# Altium schematic symbol library ICL_passives_v1.SchLib: 295 symbols
Pins are listed as number, name and electrical type; pins without a type are passive.

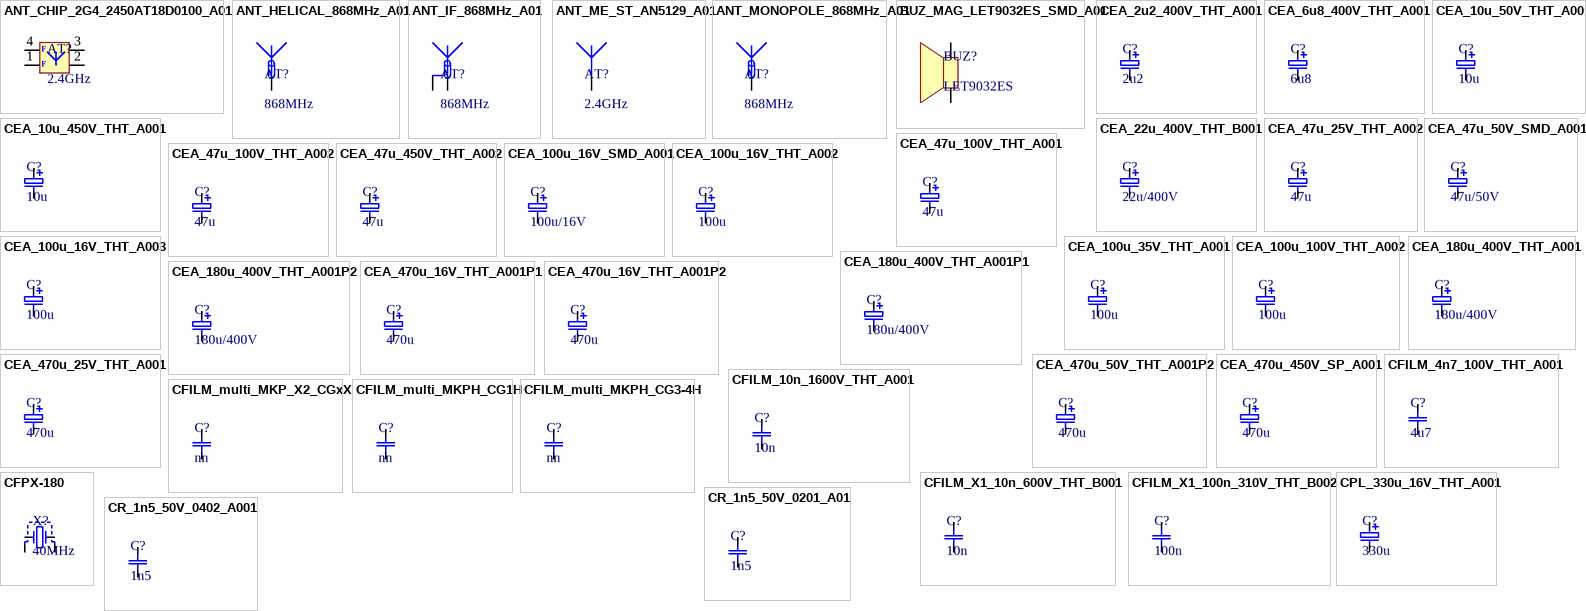
[diagram p0: symbols ANT_CHIP_2G4_2450AT18D0100_A01 to CR_1n5_50V_0402_A001]

## ANT_CHIP_2G4_2450AT18D0100_A01
designator AT?, comment 2.4GHz
50 Ohm 2.4GHz; ICLN: ANT_2G4_SMD_2450AT18D0100_A01
footprint 2450AT18D0100 (2,4GHz BLE/WiFi antena)
pins: 1, 2, 3, 4
text: F

## ANT_HELICAL_868MHz_A01
designator AT?, comment 868MHz
868 MHz: 10-j88; VSWR 22; PCB 0.8mm; ICLN: NA
footprint ANT_868MHz_HELICAL_A01 (868 MHz: 10-j88; VSWR 22; PCB 0.8mm)
pins: 2

## ANT_IF_868MHz_A01
designator AT?, comment 868MHz
50 Ohm 868 MHz: 30+j11; VSWR 1.8; PCB 0.8mm; ICLN: NA
footprint ANT_868MHz_IF_A01 (50 Ohm 868 MHz: 30+j11; VSWR 1.8; PCB 0.8mm)
pins: 1, 2

## ANT_ME_ST_AN5129_A01
designator AT?, comment 2.4GHz  (no BOM)
50 Ohm 2.4GHz ST; ICLN: NA
footprint ANT_ST_AN5129_BLE (2.4GHz ST antena)
pins: 1

## ANT_MONOPOLE_868MHz_A01
designator AT?, comment 868MHz
50 Ohm 868 MHz: 30+j11; VSWR 1.8; PCB 1.6mm; ICLN: NA
footprint ANT_868MHz_MONOPOLE_A01 (50 Ohm 868 MHz: 30+j11; VSWR 1.8; PCB 1.6mm)
pins: 2

## BUZ_MAG_LET9032ES_SMD_A01
designator BUZ?, comment LET9032ES
Buzzer SMD magnetic; ICLN: BUZ_MAG_LET9032ES_SMD_A01
footprint BUZZER_LET9032ES (LET9032ES-03L-2.7-16-R)
pins: 1, 2

## CEA_2u2_400V_THT_A001
designator C?, comment 2u2
2u2/400V Aluminum electrolic R=8mm H=11.5mm e=5mm; ICLN: CEA_2u2_400V_THT_A001
footprint CEA_R8_H11_5 (snap 3.5mm fi 8mm h 11.5mm)
pins: 1, 2

## CEA_6u8_400V_THT_A001
designator C?, comment 6u8
6u8/400V Aluminum electrolic R=10mm H=16mm e=5mm; ICLN: CEA_6u8_400V_THT_A001
footprint CEA_R10H16E5_1 (fi 10mm L 16mm e 5mm)
pins: 1, 2

## CEA_10u_50V_THT_A001
designator C?, comment 10u
cap. aluminium 10u/50V THT e=2.5mm H=11mm Fi=5; ICLN: CEA_10u_50V_THT_A001
footprint CEA_R6_3_H11_5 (tht 2.5mm fi 6,3mm h 11.5mm)
pins: 1, 2

## CEA_10u_450V_THT_A001
designator C?, comment 10u
180u/400V Aluminum electrolic R=12.5mm H=20mm e=5mm; ITSN: CEA_10u_450V_THT_A001
footprint CEA_R12,5_H20_A001 (e=5mm fi 12,5mm h 20mm)
pins: 1, 2

## CEA_22u_400V_THT_B001
designator C?, comment 22u/400V
22u/400V Aluminum electrolic; ICLN: CEA_22uF_400V_12_25_B001
footprint CEA_R12,5_H25_B001 (e=5mm and 7.5mm fi 12,5mm h 25mm)
pins: 1, 2

## CEA_47u_25V_THT_A002
designator C?, comment 47u
cap. aluminium low esr 47u/25V THT e=3,5mm H=11mm; ICLN: CEA_47u_25V_THT_A002
footprint CEA_R6_3_H11_5 (tht 2.5mm fi 6,3mm h 11.5mm)
pins: 1, 2

## CEA_47u_50V_SMD_A001
designator C?, comment 47u/50V
47u/50V Aluminum electrolic R=8mm H=6.5mm; ICLN: CEA_47u_50V_SMD_A001
footprint CEA_S_D8.0_H6.5_A001
pins: 1, 2

## CEA_47u_100V_THT_A001
designator C?, comment 47u
47u/100V Aluminum electrolic R=12.5mm H=20mm e=5mm; ICLN: CEA_47u_100V_THT_A003
footprint CEA_R12,5_H20_A001 (e=5mm fi 12,5mm h 20mm)
pins: 1, 2

## CEA_47u_100V_THT_A002
designator C?, comment 47u
47u/100V  R=10mm H=12mm e=5mm; ICLN: CEA_47u_100V_THT_A002
footprint CEA_R10_H12_A002 (e=5mm fi 10mm h 12mm)
pins: 1, 2

## CEA_47u_450V_THT_A002
designator C?, comment 47u
47u/450V fi19 h 30 e7.5, 10, 12; ITSN: CEA_47u_450V_THT_A002
footprint CEA_R19_H30_e75_10_v1 (e=7.5+10+12mm  fi 19mm h 30mm)
pins: 1, 2

## CEA_100u_16V_SMD_A001
designator C?, comment 100u/16V
100u/16V Aluminum electrolic R=6,3mm H=5.8mm; ICLN: CEA_100u_16V_SMD_A001
footprint CEA_S_D6.3_H5.8_A001
pins: 1, 2

## CEA_100u_16V_THT_A002
designator C?, comment 100u
100u/16V Aluminum electrolic R=6,3mm H=11,5mm e=2,5mm; ICLN: CEA_100u_16V_THT_A002
footprint CEA_R6_3_H11_5 (snap 3.5mm fi 8mm h 11.5mm)
pins: 1, 2

## CEA_100u_16V_THT_A003
designator C?, comment 100u
100u/16V Aluminum electrolic R=6,3mm H=11,5mm e=2,5mm; ICLN: CEA_100u_16V_THT_A003
footprint CEA_R6_3_H11_5 (snap 3.5mm fi 8mm h 11.5mm)
pins: 1, 2

## CEA_100u_35V_THT_A001
designator C?, comment 100u
cap. aluminium 100u/35V Low ESR THT e=2.5mm H=11mm Fi=5; ICLN: CEA_100u_35V_THT_A002
footprint CEA_R6_3_H11_5 (tht 2.5mm fi 6,3mm h 11.5mm)
pins: 1, 2

## CEA_100u_100V_THT_A002
designator C?, comment 100u
100u/100V Aluminum electrolic R=12.5mm H=25mm e=5mm; ICLN: CEA_100u_100V_THT_A002
footprint CEA_R12,5_H25_A001 (e=5mm fi 12,5mm h 25mm)
pins: 1, 2

## CEA_180u_400V_THT_A001
designator C?, comment 180u/400V
180u/400V Aluminum electrolic R=18mm H=45mm e=7.5mm; ITSN: CEA_180u_400V_THT_A001
footprint CEA_R18H45E7.5_1
pins: 1, 2

## CEA_180u_400V_THT_A001P1
designator C?, comment 180u/400V
180u/400V Aluminum electrolic R=18mm H=45mm e=7.5mm; poziomy prawy; ITSN: CEA_180u_400V_THT_A001P1
footprint CEA_R18H45E7.5_VR_1 (vertival right)
pins: 1, 2

## CEA_180u_400V_THT_A001P2
designator C?, comment 180u/400V
180u/400V Aluminum electrolic R=18mm H=45mm e=7.5mm; poziomy lewy; ITSN: CEA_180u_400V_THT_A001P2
footprint CEA_R18H45E7.5_VL_1 (vertival left)
pins: 1, 2

## CEA_470u_16V_THT_A001P1
designator C?, comment 470u
cap. aluminium 470u/16V THT e=3,5mm H=11mm; ITSN: CEA_470u_16V_THT_A001P1
footprint CEA_R8_H11_5_VL_1 (snap 3.5mm fi 8mm h 11.5mm)
pins: 1, 2

## CEA_470u_16V_THT_A001P2
designator C?, comment 470u
cap. aluminium 470u/16V THT e=3,5mm H=11mm; ITSN: CEA_470u_16V_THT_A001P2
footprint CEA_R8_H11_5_VR_1 (snap 3.5mm fi 8mm h 11.5mm)
pins: 1, 2

## CEA_470u_25V_THT_A001
designator C?, comment 470u
470u/25V Aluminum electrolic R=12.5mm H=20mm e=5mm; ICLN: CEA_470u_25V_THT_A001
footprint CEA_R12,5_H20_A001 (e=5mm fi 12,5mm h 20mm)
pins: 1, 2

## CEA_470u_50V_THT_A001P2
designator C?, comment 470u
cap. aluminium 470u/50V THT e=5mm R=12.5mm H=25mm; ITSN: CEA_470u_50V_THT_A001P1
footprint CEA_R12,5_H25_VL_A001P1 (e=5mm fi 12,5mm h 25mm)
pins: 1, 2

## CEA_470u_450V_SP_A001
designator C?, comment 470u
cap. aluminium 470u/450V THT e=10mm H=50mm; ITSN: CEA_470u_450V_SP_A001
footprint CEA_D35mm_H50mm_SP_A001
pins: 1, 2

## CFILM_4n7_100V_THT_A001
designator C?, comment 4u7
4u7/100V MKT Film capacitor; ITSN: CFILM_4n7_100V_THT_A001
footprint MPEM-4U7R20 (4u7/100V e = 20mm)
pins: 1, 2

## CFILM_10n_1600V_THT_A001
designator C?, comment 10n
10n/1600V MKT Kemet R76 Film capacitor; ITSN: CMKT_10n_1600V_THT_R76_A001
footprint R76-MPK_e15mm_l18mm_t5mm
pins: 1, 2

## CFILM_multi_MKP_X2_CGxX
designator C?, comment nn
CG-ELEC bulk DC link capacitor; ICLN: CMKP_xx_MKP_X2_CGxX_N001
footprint MKP-X2_CGxX_series (Universal footprint for CG-ELEC resonant cap)
pins: 1, 2

## CFILM_multi_MKPH_CG1H
designator C?, comment nn
CG-ELEC snubber capacitor; ICLN: CMKP_xx_MKPH_CG1H_N001
footprint MKPH_CG1H_series (Universal footprint for CG-ELEC snubber cap.)
pins: 1, 2

## CFILM_multi_MKPH_CG3-4H
designator C?, comment nn
CG-ELEC resonant capacitor; ICLN: CMKP_xx_MKPH_CG3-4H_N001
footprint MKPH_CGxH_series (Universal footprint for CG-ELEC resonant cap)
pins: 1, 2

## CFILM_X1_10n_600V_THT_B001
designator C?, comment 10n
10n/600V X1; ICLN: CFILM_X1_10n_600V_THT_B001
footprint C_X1_KEMET_B001
pins: 1, 2

## CFILM_X1_100n_310V_THT_B002
designator C?, comment 100n
100n/310VAC X1 18mm x 7mm; e=10 - 15 mm; ICLN: CFILM_100n_310V_THT_B002
footprint C_X1_18x8_B002
pins: 1, 2

## CFPX-180
designator X?, comment 40MHz
footprint CFPX-180 (kwarc)
pins: 1, 2, 3, 4

## CPL_330u_16V_THT_A001
designator C?, comment 330u
330u/16V polimer R=8mm H=8mm e=3.5mm; ICLN: CPL_330u_16V_THT_A001
footprint CPOL_R8_H8_THT_A001 (polimer l=8.0mm fi= 8mm e=3.5)
pins: 1, 2

## CR_1n5_50V_0201_A01
designator C?, comment 1n5
1n5F/ 50V X7R 0201; ICLN: CR_1n5_50V_X7R_0201_A01
footprint 0201C
pins: 1, 2

## CR_1n5_50V_0402_A001
designator C?, comment 1n5
1n5F/ 50V X7R 0402; ICLN: CR_1n5_50V_X7R_0402_A001
footprint 0402C
pins: 1, 2

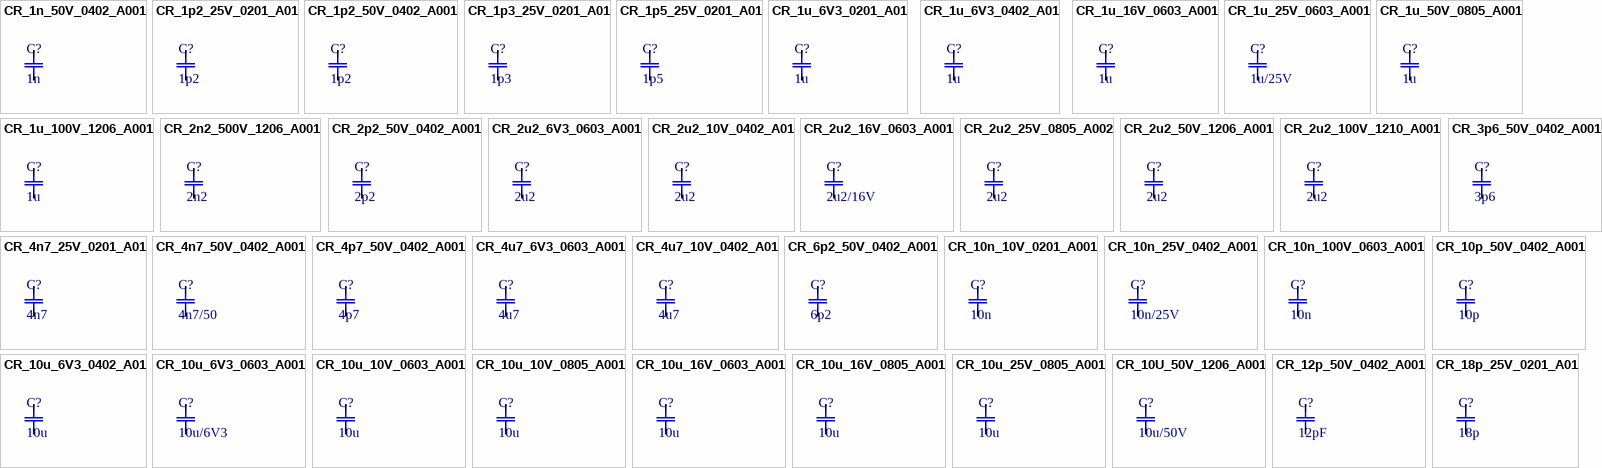
[diagram p1: symbols CR_1n_50V_0402_A001 to CR_18p_25V_0201_A01]

## CR_1n_50V_0402_A001
designator C?, comment 1n
1nF/ 50V X7R 0402; ICLN: CR_1n_50V_X7R_0402_A001
footprint 0402C
pins: 1, 2

## CR_1p2_25V_0201_A01
designator C?, comment 1p2
1p2F/ 25V C0G 0201; ICLN: CR_1p2_25V_C0G_0201_A01
footprint 0201C
pins: 1, 2

## CR_1p2_50V_0402_A001
designator C?, comment 1p2
1p2F/ 50V C0G 0402; ICLN: CR_1p2_50V_C0G_0402_A001
footprint 0402C
pins: 1, 2

## CR_1p3_25V_0201_A01
designator C?, comment 1p3
1p3F/ 25V C0G 0201; ICLN: CR_1p3_25V_C0G_0201_A01
footprint 0201C
pins: 1, 2

## CR_1p5_25V_0201_A01
designator C?, comment 1p5
1p5F/ 25V C0G 0201; ICLN: CR_1p5_25V_C0G_0201_A01
footprint 0201C
pins: 1, 2

## CR_1u_6V3_0201_A01
designator C?, comment 1u
1uF/6V3 X5R 0201; ICLN: CR_1u_6V3_X5R_0201_A01
footprint 0201C
pins: 1, 2

## CR_1u_6V3_0402_A01
designator C?, comment 1u
1uF/6V3 X7R 0402; ICLN: CR_1u_6V3_X7R_0402_A01
footprint 0402C
pins: 1, 2

## CR_1u_16V_0603_A001
designator C?, comment 1u
1uF/16V X7R 0603; ICLN: CR_1u_16V_X7R_0603_A001
footprint 0603C
pins: 1, 2

## CR_1u_25V_0603_A001
designator C?, comment 1u/25V
1uF/25V X7R 0603; ITSN: CR_1u_25V_X5R_0603_A001
footprint 0603C
pins: 1, 2

## CR_1u_50V_0805_A001
designator C?, comment 1u
1uF/50V X7R 0805; ICLN: CR_1u_50V_X7R_0805_A001
footprint 0805C
pins: 1, 2

## CR_1u_100V_1206_A001
designator C?, comment 1u
1uF/100V X7R 1206; ICLN: CR_1u_100V_X7R_1206_A001
footprint 1206C
pins: 1, 2

## CR_2n2_500V_1206_A001
designator C?, comment 2n2
2n2F/500V X7R 1206; ICLN: CR_2n2_500V_1206_A001
footprint 1206C
pins: 1, 2

## CR_2p2_50V_0402_A001
designator C?, comment 2p2
2p2/50V C0G 0402; ICLN: CR_2p2_50V_C0G_0402_A001
footprint 0402C
pins: 1, 2

## CR_2u2_6V3_0603_A001
designator C?, comment 2u2
2u2/6V3 X5R 0603; ICLN: CR_2u2_6V3_X5R_0603_A001
footprint 0603C
pins: 1, 2

## CR_2u2_10V_0402_A01
designator C?, comment 2u2
2u2/10V X5R 0402; ICLN: CR_2u2_10V_X5R_0402_A01
footprint 0402C
pins: 1, 2

## CR_2u2_16V_0603_A001
designator C?, comment 2u2/16V
2u2/16V X5R 0603; ITSN: CR_2u2_16V_X5R_0603_A001
footprint 0603C
pins: 1, 2

## CR_2u2_25V_0805_A002
designator C?, comment 2u2
2u2/25V X7R 0805; ICLN: CR_2u2_25V_X7R_0805_A001
footprint 0805C
pins: 1, 2

## CR_2u2_50V_1206_A001
designator C?, comment 2u2
2u2/50V X7R 1206; ICLN: CR_2u2_50V_X7R_1206_A001
footprint 1206C
pins: 1, 2

## CR_2u2_100V_1210_A001
designator C?, comment 2u2
2u2F/100V X7R 1210; ICLN: CR_2u2_100V_1210_A001
footprint 1210C
pins: 1, 2

## CR_3p6_50V_0402_A001
designator C?, comment 3p6
3p6/50V C0G 0402; ICLN: CR_3p6_50V_C0G_0402_A001
footprint 0402C
pins: 1, 2

## CR_4n7_25V_0201_A01
designator C?, comment 4n7
4n7 25V X7R 0201; ITSN: CR_4n7_25V_X7R_0201_A01
footprint 0201C
pins: 1, 2

## CR_4n7_50V_0402_A001
designator C?, comment 4n7/50
4n7 25V X7R 0402; ITSN: CR_4n7_50V_X7R_0402_A001
footprint 0402C
pins: 1, 2

## CR_4p7_50V_0402_A001
designator C?, comment 4p7
4p7F/ 50V X7R 0402; ICLN: CR_4p7_50V_X7R_0402_A001
footprint 0402C
pins: 1, 2

## CR_4u7_6V3_0603_A001
designator C?, comment 4u7
4u7/6V3 X5R 0603; ICLN: CR_4u7_6V3_X5R_0603_A001
footprint 0603C
pins: 1, 2

## CR_4u7_10V_0402_A01
designator C?, comment 4u7
4u7/10V X5R 0402; ICLN: CR_4u7_10V_X5R_0402_A01
footprint 0402C
pins: 1, 2

## CR_6p2_50V_0402_A001
designator C?, comment 6p2
6p2/50V C0G 0402; ICLN: CR_6p2_50V_C0G_0402_A001
footprint 0402C
pins: 1, 2

## CR_10n_10V_0201_A001
designator C?, comment 10n
10nF/10V X7R 0201; ICLN: CR_10n_10V_X7R_0201_A001
footprint 0201C
pins: 1, 2

## CR_10n_25V_0402_A001
designator C?, comment 10n/25V
10nF/25V X7R 0402; ICLN: CR_10n_25V_X7R_0402_A001
footprint 0402C
pins: 1, 2

## CR_10n_100V_0603_A001
designator C?, comment 10n
10nF/100V X7R 0603; ITSN: CR_10n_100V_X7R_0603_A001
footprint 0603C
pins: 1, 2

## CR_10p_50V_0402_A001
designator C?, comment 10p
10pF/ 50V C0G 0402; ICLN: CR_10p_50V_0402_C0G_A001
footprint 0402C
pins: 1, 2

## CR_10u_6V3_0402_A01
designator C?, comment 10u
10uF/6V3 X7R 0402; ICLN: CR_10u_6V3_X5R_0402_A01
footprint 0402C
pins: 1, 2

## CR_10u_6V3_0603_A001
designator C?, comment 10u/6V3
10uF/6V3 X7R 0603; ITSN: CR_10u_6V3_X7R_0603_A001
footprint 0603C
pins: 1, 2

## CR_10u_10V_0603_A001
designator C?, comment 10u
10uF/10V X5R 0603; ICLN: CR_10u_10V_0603_A001
footprint 0603C
pins: 1, 2

## CR_10u_10V_0805_A001
designator C?, comment 10u
10uF/10V X5R 0805; ICLN: CR_10u_10V_0805_A001
footprint 0805C
pins: 1, 2

## CR_10u_16V_0603_A001
designator C?, comment 10u
10uF/16V X5R 0603; ITSN: CR_10u_16V_X5R_0603_A001
footprint 0603C
pins: 1, 2

## CR_10u_16V_0805_A001
designator C?, comment 10u
10uF/16V X5R 0805; ICLN: CR_10u_16V_0805_A001
footprint 0805C
pins: 1, 2

## CR_10u_25V_0805_A001
designator C?, comment 10u
10uF/25V X5R 0805; ICLN: CR_10u_25V_X5R_0805_A001
footprint 0805C
pins: 1, 2

## CR_10U_50V_1206_A001
designator C?, comment 10u/50V
10uF/50V X5R 1206; ITSN: CR_10u_50V_X5R_1206_A001
footprint 1206C
pins: 1, 2

## CR_12p_50V_0402_A001
designator C?, comment 12pF
12pF/50V C0G 0402; ICLN: CR_12p_50V_C0G_0402_A001
footprint 0402C
pins: 1, 2

## CR_18p_25V_0201_A01
designator C?, comment 18p
18pF/ 25V C0G 0201; ICLN: CR_18p_25V_C0G_0201_A01
footprint 0201C
pins: 1, 2

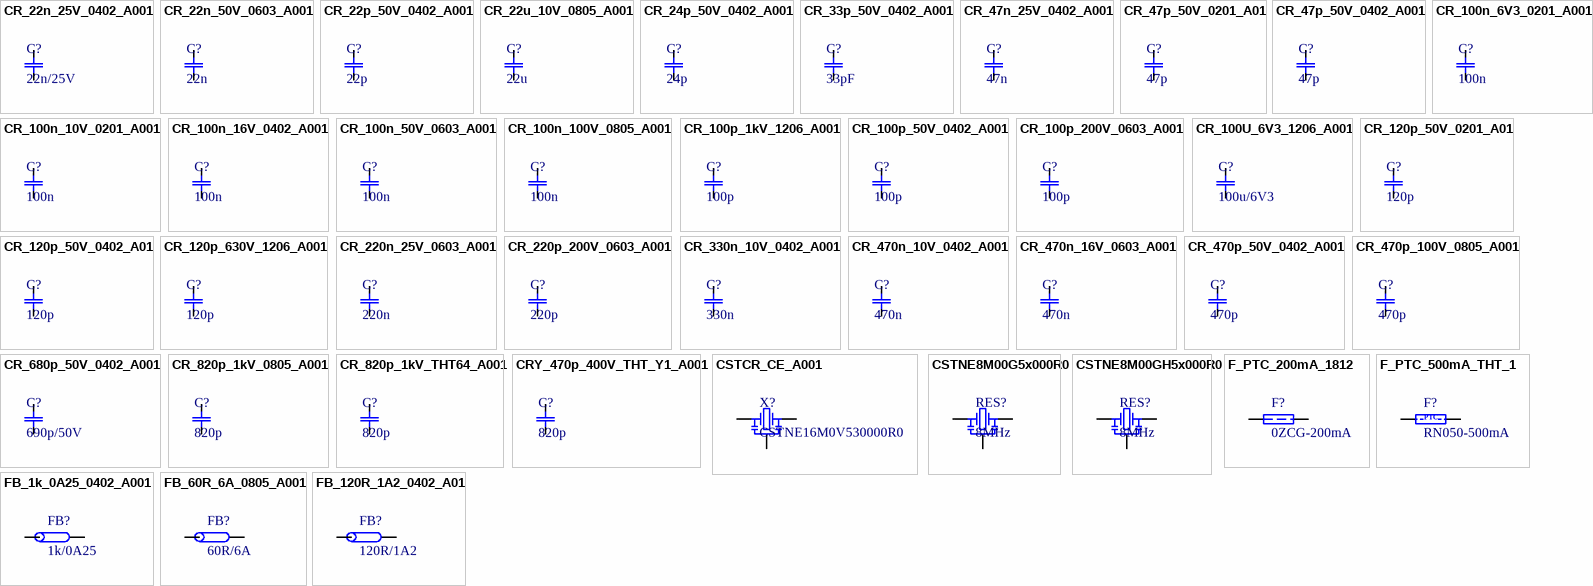
[diagram p2: symbols CR_22n_25V_0402_A001 to FB_120R_1A2_0402_A01]

## CR_22n_25V_0402_A001
designator C?, comment 22n/25V
22n/25V X7R 0402; ITSN: CR_22n_25V_X7R_0402_A001
footprint 0402C
pins: 1, 2

## CR_22n_50V_0603_A001
designator C?, comment 22n
22n/50V X7R 0603; ICLN: CR_22n_50V_X7R_0603_A001
footprint 0603C
pins: 1, 2

## CR_22p_50V_0402_A001
designator C?, comment 22p
22p/50V C0G 0402; ICLN: CR_22p_50V_C0G_0402_A001
footprint 0402C
pins: 1, 2

## CR_22u_10V_0805_A001
designator C?, comment 22u
22uF/10V X5R 0805; ITSN: CR_22u_10V_X5R_0805_A001
footprint 0805C
pins: 1, 2

## CR_24p_50V_0402_A001
designator C?, comment 24p
24p/50V C0G 0402; ICLN: CR_24p_50V_C0G_0402_A001
footprint 0402C
pins: 1, 2

## CR_33p_50V_0402_A001
designator C?, comment 33pF
33pF/50V C0G 0402; ITSN: CR_33p_50V_C0G_0402_A001
footprint 0402C
pins: 1, 2

## CR_47n_25V_0402_A001
designator C?, comment 47n
47nF/ 25V X7R 0402; ICLN: CR_47n_25V_0402_A001
footprint 0402C
pins: 1, 2

## CR_47p_50V_0201_A01
designator C?, comment 47p
47pF/ 50V C0G 0201; ICLN: CR_47p_50V_C0G_0201_A01
footprint 0201C
pins: 1, 2

## CR_47p_50V_0402_A001
designator C?, comment 47p
47pF/ 50V C0G 0402; ICLN: CR_47p_50V_C0G_0402_A001
footprint 0402C
pins: 1, 2

## CR_100n_6V3_0201_A001
designator C?, comment 100n
100nF/6V3 X5R 0201; ICLN: CR_100n_6V3_X5R_0201_A001
footprint 0201C
pins: 1, 2

## CR_100n_10V_0201_A001
designator C?, comment 100n
100nF/10V X5R 0201; ICLN: CR_100n_10V_X5R_0201_A001
footprint 0201C
pins: 1, 2

## CR_100n_16V_0402_A001
designator C?, comment 100n
100nF/16V X7R 0402; ICLN: CR_100n_16V_X7R_0402_A001
footprint 0402C
pins: 1, 2

## CR_100n_50V_0603_A001
designator C?, comment 100n
100nF/50V X7R 0603; ICLN: CR_100n_50V_X7R_0603_A001
footprint 0603C
pins: 1, 2

## CR_100n_100V_0805_A001
designator C?, comment 100n
100nF/100V X7R 0805; ICLN: CR_100n_100V_X7R_0805_A001
footprint 0805C
pins: 1, 2

## CR_100p_1kV_1206_A001
designator C?, comment 100p
100pF/1kV C0G 1206; ICLN: CR_100p_1kV_1206_C0G_A001
footprint 1206C
pins: 1, 2

## CR_100p_50V_0402_A001
designator C?, comment 100p
100pF/ 50V C0G 0402; ICLN: CR_100p_50V_C0G_0402_A001
footprint 0402C
pins: 1, 2

## CR_100p_200V_0603_A001
designator C?, comment 100p
100p/200V X7R 0603; ICLN: CR_100p_200V_X7R_0603_A001
footprint 0603C
pins: 1, 2

## CR_100U_6V3_1206_A001
designator C?, comment 100u/6V3
100uF/6V3 X5R 1206; ITSN: CR_100u_6V3_X5R_1206_A001
footprint 1206C
pins: 1, 2

## CR_120p_50V_0201_A01
designator C?, comment 120p
120pF/50V C0G 0201; ICLN: CR_120p_50V_C0G_0201_A01
footprint 0201C
pins: 1, 2

## CR_120p_50V_0402_A01
designator C?, comment 120p
120pF/50V C0G 0402; ICLN: CR_120p_50V_C0G_0402_A01
footprint 0402C
pins: 1, 2

## CR_120p_630V_1206_A001
designator C?, comment 120p
120pF/630V C0G 1206; ICLN: CR_120p_630V_1206_C0G_A001
footprint 1206C
pins: 1, 2

## CR_220n_25V_0603_A001
designator C?, comment 220n
220n/25V X7R 0603; ICLN: CR_220n_25V_X7R_0603_A001
footprint 0603C
pins: 1, 2

## CR_220p_200V_0603_A001
designator C?, comment 220p
220p/200V X7R 0603; ITSN: CR_220p_200V_X7R_0603_A001
footprint 0603C
pins: 1, 2

## CR_330n_10V_0402_A001
designator C?, comment 330n
330nF/10V X5R 0402; ICLN: CR_330n_10V_0402_A001
footprint 0402C
pins: 1, 2

## CR_470n_10V_0402_A001
designator C?, comment 470n
470n/10V X5R 0402; ICLN: CR_470n_10V_0402_X5R_A001
footprint 0402C
pins: 1, 2

## CR_470n_16V_0603_A001
designator C?, comment 470n
470n/16V X7R 0603; ICLN: CR_470n_16V_0603_X7R_A001
footprint 0603C
pins: 1, 2

## CR_470p_50V_0402_A001
designator C?, comment 470p
470p/50V C0G 0402; ICLN: CR_470p_50V_C0G_0402_A001
footprint 0402C
pins: 1, 2

## CR_470p_100V_0805_A001
designator C?, comment 470p
470p/100V C0G 0805; ICLN: CR_470p_100V_C0G_0805_A001
footprint 0805C
pins: 1, 2

## CR_680p_50V_0402_A001
designator C?, comment 690p/50V
680pF/ 50V C0G 0402; ITSN: CR_680p_50V_C0G_0402_A001
footprint 0402C
pins: 1, 2

## CR_820p_1kV_0805_A001
designator C?, comment 820p
820p/1kV X7R 0805; ICLN: CR_820p_1kV_X7R_0805_A001
footprint 0805C
pins: 1, 2

## CR_820p_1kV_THT64_A001
designator C?, comment 820p
820p / 1kV; ICLN: CR_820p_1kV_THT_64MM_A001
footprint CRY_THT_e10_75_D9_T5_A001 (cr e=7.5-10 D=7.5 T=4 THT)
pins: 1, 2

## CRY_470p_400V_THT_Y1_A001
designator C?, comment 820p
470p/400V Y1 e=7.5 - 10 mm H= 10; ICLN: CRY_470p_400V_Y1_THT_A001
footprint CRY_THT_e10_75_D9_T5_A001 (cr e=7.5-10 D=7.5 T=4 THT)
pins: 1, 2

## CSTCR_CE_A001
designator X?, comment CSTNE16M0V530000R0
CSTNE16M0V530000R0 16MHz; ITSN: XTAL_CSTCE_16MHz_SMD_A001
footprint CSTCE_NE_A001 (Murata ceramic resonator e=1,2mm)
pins: 1, 2, 3

## CSTNE8M00G5x000R0
designator RES?, comment 8MHz
ceramic resonator  8MHz 0,5%CSTNE8M00G55C000R0; ICLN: RES_8MHz_SMD_0,5%_A001
footprint CSTNE_NE_A001 (Murata ceramic resonator e=1,2mm)
pins: 1, 2, 3

## CSTNE8M00GH5x000R0
designator RES?, comment 8MHz
ceramic resonator  8MHz 0,07%CSTNE8M00GH5C000R0; ICLN: RES_8MHz_SMD_0,07%_A001
footprint CSTNE_NE_A001 (Murata ceramic resonator e=1,2mm)
pins: 1, 2, 3

## F_PTC_200mA_1812
designator F?, comment 0ZCG-200mA
Polimer PTC fuse 200mA/60V 1812; ICLN: F_POLI_200mA_SMD_1812_A001
footprint 1812F
pins: 1, 2

## F_PTC_500mA_THT_1
designator F?, comment RN050-500mA
Polimer PTC fuse 500mA/90V THT; ICLN: F_POLI_500mA_THT_d10e5_A001
footprint RN0xx_A001 (fi 10mm L 14mm e 5.1mm)
pins: 1, 2
text: PTC

## FB_1k_0A25_0402_A001
designator FB?, comment 1k/0A25
1k @ 100MHz 0A25 0402; ICLN: FB_1k_0A25_0402_A001
footprint 0402R
pins: 1, 2

## FB_60R_6A_0805_A001
designator FB?, comment 60R/6A
60R @ 100MHz 0805; ICLN: FB_60R_5A_0805_A001
footprint 0805R
pins: 1, 2

## FB_120R_1A2_0402_A01
designator FB?, comment 120R/1A2
120R @ 100MHz 1A2 0402; ICLN: FB_120R_1A2_0402_A01
footprint 0402R
pins: 1, 2

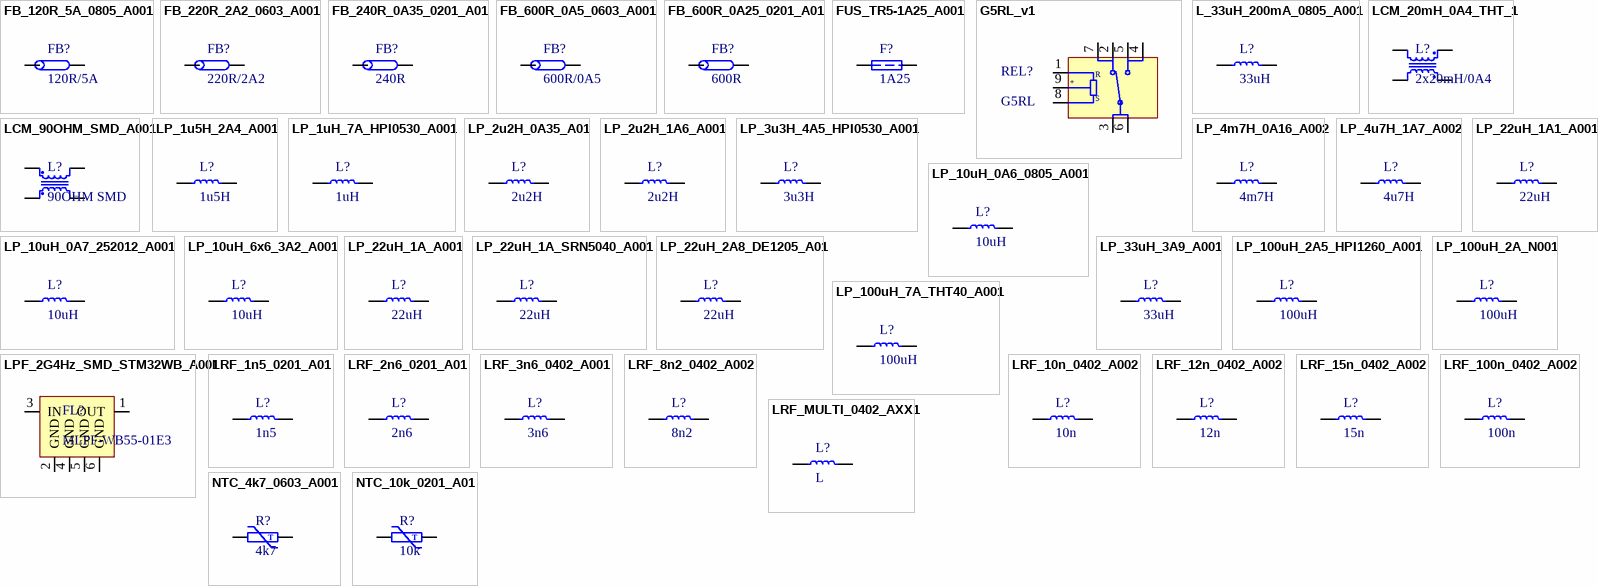
[diagram p3: symbols FB_120R_5A_0805_A001 to NTC_10k_0201_A01]

## FB_120R_5A_0805_A001
designator FB?, comment 120R/5A
120R @ 100MHz 0805; ICLN: FB_120R_5A_0805_A001
footprint 0805R
pins: 1, 2

## FB_220R_2A2_0603_A001
designator FB?, comment 220R/2A2
220R @ 100MHz 0603; ITSN: FB_220R_2A2_0603_A001
footprint 0603R
pins: 1, 2

## FB_240R_0A35_0201_A01
designator FB?, comment 240R
240R @ 100MHz 0A35 0201; ICLN: FB_240R_0A35_0201_A01
footprint 0201R
pins: 1, 2

## FB_600R_0A5_0603_A001
designator FB?, comment 600R/0A5
600R @ 100MHz 0603; ICLN: FB_600R_0A5_0603_A001
footprint 0603R
pins: 1, 2

## FB_600R_0A25_0201_A01
designator FB?, comment 600R
600R @ 100MHz 0A25 0201; ICLN: FB_600R_0A25_0201_A01
footprint 0201R
pins: 1, 2

## FUS_TR5-1A25_A001
designator F?, comment 1A25
TR5 1,25A fuse; ICLN: FUSE_1A25_TR5_THT_A001
footprint FUSE_MRT_THT_v1 (MRT round fuse THT soldering)
pins: 1, 2

## G5RL_v1
designator REL?, comment G5RL
bistable releay Omron G5RL; ITSN: REL_G5RL_MULTI_A001
footprint G5RL_universal_v1 (G5RL universal footprint)
pins: 1, 2, 3, 4, 5, 6, 7, 8, 9
text: R; +; S

## L_33uH_200mA_0805_A001
designator L?, comment 33uH
33uH / 200mA 0805; ICLN: L_33uH_200mA_0805_A001
footprint 0805R
pins: 1, 2

## LCM_20mH_0A4_THT_1
designator L?, comment 2x20mH/0A4
ICLN: LCM_20mH_0A4_THT_A001
footprint LCM_SSRH7H_B82721-A
pins: 1, 2, 3, 4

## LCM_90OHM_SMD_A001
designator L?, comment 90OHM SMD
ICLN: LCM_20mH_0A4_THT_A001
footprint DLM11S_A001 (murata CM smd choke)
pins: 1, 2, 3, 4

## LP_1u5H_2A4_A001
designator L?, comment 1u5H
1u5H/2A4 1008; ICLN: LP_1u5H_2A4_1008_A001
footprint 1008L
pins: 1, 2

## LP_1uH_7A_HPI0530_A001
designator L?, comment 1uH
1uH/7A HPI0530; ITSN: LP_1uH_7A_SMD_HPI0530_A001
footprint HPI0530
pins: 1, 2

## LP_2u2H_0A35_A01
designator L?, comment 2u2H
2u2H/0A35 MLZ1005; ICLN: LP_2u2H_0A35_0402_A001
footprint MLZ1005 (inductor murata)
pins: 1, 2

## LP_2u2H_1A6_A001
designator L?, comment 2u2H
2u2H/1A6 WLPN303015; ICLN: LP_2u2H_1A6_WLPN303015_A001
footprint WLPN303015
pins: 1, 2

## LP_3u3H_4A5_HPI0530_A001
designator L?, comment 3u3H
3u3H/4A5 HPI0530; ICLN: LP_3u3H_4A5_HPI0530_A001
footprint HPI0530
pins: 1, 2

## LP_4m7H_0A16_A002
designator L?, comment 4m7H
4,7mH/0,16A  COIL0608-4.7; ICLN: LP_4m7H_0A16_THT_A002
footprint L_COIL0608-47_v1 (inductor)
pins: 1, 2

## LP_4u7H_1A7_A002
designator L?, comment 4u7H
4,7uH/1A7 DJNR 4018; ICLN: LP_4u7H_1A_DJNR4018_A002
footprint DJNR4018
pins: 1, 2

## LP_10uH_0A6_0805_A001
designator L?, comment 10uH
10uH/0A6 74479777310A; ICLN: LP_10uH_0A6_0805_A001
footprint 0805R
pins: 1, 2

## LP_10uH_0A7_252012_A001
designator L?, comment 10uH
10uH/0A7 SWPA252012; ICLN: LP_10uH_0A7_SMD_252012_A001
footprint SWPA252012S
pins: 1, 2

## LP_10uH_6x6_3A2_A001
designator L?, comment 10uH
10uH/3A1 6x6; ICLN: LP_10uH_6x6_3A2_N001
footprint VLS6045EX
pins: 1, 2

## LP_22uH_1A1_A001
designator L?, comment 22uH
22uH/1A1 DJNR 6045; ITSN: LP_22uH_1A1_DJNR6045_A001
footprint DJNR6045
pins: 1, 2

## LP_22uH_1A_A001
designator L?, comment 22uH
22uH/1A DJNR 4018; ITSN: LP_22uH_1A_DJNR4018_A001
footprint DJNR4018
pins: 1, 2

## LP_22uH_1A_SRN5040_A001
designator L?, comment 22uH
22uH/1A SRN5040; DJNR5020; DJNR5040; ITSN: LP_22uH_1A_SRN5040_A001
footprint SRN5040 (BOURNS  SRN5040)
pins: 1, 2

## LP_22uH_2A8_DE1205_A01
designator L?, comment 22uH
22uH/2A8 DE1205; ICLN: LP_22u_2A8_DE1205_SMD_A001
footprint DE1205
pins: 1, 2

## LP_33uH_3A9_A001
designator L?, comment 33uH
33uH/3A9 DE1207; ITSN: LP_33uH_3A9_DE1207_A001
footprint DE1207
pins: 1, 2

## LP_100uH_2A5_HPI1260_A001
designator L?, comment 100uH
100uH/2A/HIP1260; ICLN: LP_100uH_2A5_HPI1260_A001
footprint HPI1260
pins: 1, 2

## LP_100uH_2A_N001
designator L?, comment 100uH
100uH/2A; ICLN: LP_100uH_2A_N001
footprint L_SMD_13_13_MULTI
pins: 1, 2

## LP_100uH_7A_THT40_A001
designator L?, comment 100uH
100uH/7A; ITSN: LP_100uH_7A_THT40_A001
footprint L_T40_A001 (inductor)
pins: 1, 2

## LPF_2G4Hz_SMD_STM32WB_A001
designator FL?, comment MLPF-WB55-01E3
MLPF-WB55-01E3  LPF 2.4GHz for STM32WB; ICLN: LPF_MLPF-WB55-01E3_SMD_A001
footprint MLPF-WB55-01E3 (st lpg FILTER)
pins: 1 OUT, 2 GND, 3 IN, 4 GND, 5 GND, 6 GND

## LRF_1n5_0201_A01
designator L?, comment 1n5
1n5H 5% 300mA 0201; ICLN: LRF_1n5_0201_A01
footprint 0201L
pins: 1, 2

## LRF_2n6_0201_A01
designator L?, comment 2n6
2n6H 5% 300mA 0201; ICLN: LRF_2n6_0201_A01
footprint 0201L
pins: 1, 2

## LRF_3n6_0402_A001
designator L?, comment 3n6
3n6H 5% 100mA 0402; ICLN: LRF_3n6H_0402_A001
footprint 0402L
pins: 1, 2

## LRF_8n2_0402_A002
designator L?, comment 8n2
8n2H 5% 500mA 0402; ICLN: LRF_8n2_0A5_5%_0402_A001
footprint 0402L
pins: 1, 2

## LRF_10n_0402_A002
designator L?, comment 10n
10nH 5% 500mA 0402; ICLN: LRF_10n_0A5_5%_0402_A001
footprint 0402L
pins: 1, 2

## LRF_12n_0402_A002
designator L?, comment 12n
12nH 5% 450mA 0402; ICLN: LRF_12n_0A45_5%_0402_A001
footprint 0402L
pins: 1, 2

## LRF_15n_0402_A002
designator L?, comment 15n
15nH 5% 450mA 0402; ICLN: LRF_15n_0A45_5%_0402_A001
footprint 0402L
pins: 1, 2

## LRF_100n_0402_A002
designator L?, comment 100n
100nH 5% 200mA 0402; ICLN: LRF_100n_0A2_5%_0402_A001
footprint 0402L
pins: 1, 2

## LRF_MULTI_0402_AXX1
designator L?, comment L
footprint 0402L
pins: 1, 2

## NTC_4k7_0603_A001
designator R?, comment 4k7
NTC 4k7  0603; ITSN: NTC_4k7_0603_A001
footprint 0603R
pins: 1, 2
text: T

## NTC_10k_0201_A01
designator R?, comment 10k
NTC 10k  0201; ICLN: NTC_10k_0201_1%_A01
footprint 0201R
pins: 1, 2
text: T

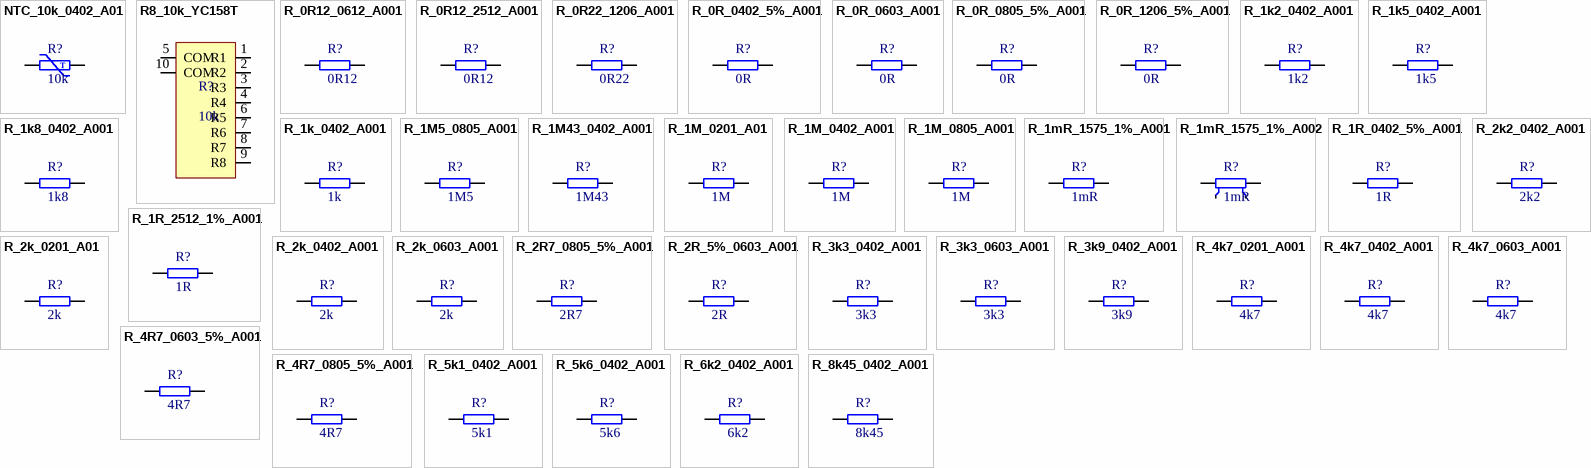
[diagram p4: symbols NTC_10k_0402_A01 to R_8k45_0402_A001]

## NTC_10k_0402_A01
designator R?, comment 10k
NTC 10k  0402; ICLN: NTC_10k_0402_A01
footprint 0402R
pins: 1, 2
text: T

## R8_10k_YC158T
designator R?, comment 10k
Resistor Ladder 10k ohm x 8pcs
footprint YC158 (8 resistors one pack)
pins: 1 R1, 2 R2, 3 R3, 4 R4, 5 COM, 6 R5, 7 R6, 8 R7, 9 R8, 10 COM

## R_0R12_0612_A001
designator R?, comment 0R12
0R12 1% 0612 1W; ICLN: R_0R12_0612_1W_A001
footprint 0612R
pins: 1, 2

## R_0R12_2512_A001
designator R?, comment 0R12
0R12 1% 2512 1W; ICLN: R_0R12_2512_1W_A001
footprint 2512R
pins: 1, 2

## R_0R22_1206_A001
designator R?, comment 0R22
0R22 1% 1206; ITSN: R_0R22_1206_A001
footprint 1206R
pins: 1, 2

## R_0R_0402_5%_A001
designator R?, comment 0R
0R 5% 0402; ICLN: R_0R_5%_0402_A001
footprint 0402R
pins: 1, 2

## R_0R_0603_A001
designator R?, comment 0R
0R 5% 0603; ITSN: R_0R_5%_0603_A001
footprint 0603R
pins: 1, 2

## R_0R_0805_5%_A001
designator R?, comment 0R
0R 5% 0805; ITSN: R_0R_5%_0805_A001
footprint 0805R
pins: 1, 2

## R_0R_1206_5%_A001
designator R?, comment 0R
0R 5% 1206; ITSN: R_0R_5%_1206_A001
footprint 1206R
pins: 1, 2

## R_1k2_0402_A001
designator R?, comment 1k2
1k2 1% 0402; ICLN: R_1k2_1%_0402_A001
footprint 0402R
pins: 1, 2

## R_1k5_0402_A001
designator R?, comment 1k5
1k5 1% 0402; ICLN: R_1k5_1%_0402_A001
footprint 0402R
pins: 1, 2

## R_1k8_0402_A001
designator R?, comment 1k8
1k8 1% 0402; ICLN: R_1k8_1%_0402_A001
footprint 0402R
pins: 1, 2

## R_1k_0402_A001
designator R?, comment 1k
1k 1% 0402; ICLN: R_1k_1%_0402_A001
footprint 0402R
pins: 1, 2

## R_1M5_0805_A001
designator R?, comment 1M5
1M5 1% 0805; ICLN: R_1M5_1%_0805_A001
footprint 0805R
pins: 1, 2

## R_1M43_0402_A001
designator R?, comment 1M43
1M43 1% 0402; ICLN: R_1M43_1%_0402_A001
footprint 0402R
pins: 1, 2

## R_1M_0201_A01
designator R?, comment 1M
1M 1% 0201; ICLN: R_1M_1%_0402_A001
footprint 0201R
pins: 1, 2

## R_1M_0402_A001
designator R?, comment 1M
1M 1% 0402; ICLN: R_1M_1%_0402_A001
footprint 0402R
pins: 1, 2

## R_1M_0805_A001
designator R?, comment 1M
1M 1% 0805; ICLN: R_1M_1%_0805_A001
footprint 0805R
pins: 1, 2

## R_1mR_1575_1%_A001
designator R?, comment 1mR
1mR `% 7W 1575; ICLN: R_0R001_1575_A001
footprint CRS1575
pins: 1, 2

## R_1mR_1575_1%_A002
designator R?, comment 1mR
1mR 7W 1% 1575; ICLN: R_0R001_1575_A001
footprint 1575R_SH_1
pins: 1, 2, 3, 4

## R_1R_0402_5%_A001
designator R?, comment 1R
1R 5% 0402; ICLN: R_1R_0402_5%_A001
footprint 0402R
pins: 1, 2

## R_1R_2512_1%_A001
designator R?, comment 1R
1R `% 1W 1575; ICLN: R_1R_1%_2512_A001
footprint 2512R
pins: 1, 2

## R_2k2_0402_A001
designator R?, comment 2k2
2k2 1% 0402; ITSN: R_2k2_1%_0402_A001
footprint 0402R
pins: 1, 2

## R_2k_0201_A01
designator R?, comment 2k
2k 1% 0201; ICLN: R_2k_1%_0201_A01
footprint 0201R
pins: 1, 2

## R_2k_0402_A001
designator R?, comment 2k
2k 1% 0402; ICLN: R_2k_1%_0402_A01
footprint 0402R
pins: 1, 2

## R_2k_0603_A001
designator R?, comment 2k
2k 1% 0603; ITSN: R_2k_1%_0603_A001
footprint 0603R
pins: 1, 2

## R_2R7_0805_5%_A001
designator R?, comment 2R7
2R7 5% 0805; ITSN: R_2R7_5%_0805_A001
footprint 0805R
pins: 1, 2

## R_2R_5%_0603_A001
designator R?, comment 2R
2R 5% 0603; ICLN: R_2R_5%_0603_A001
footprint 0603R
pins: 1, 2

## R_3k3_0402_A001
designator R?, comment 3k3
3k3 1% 0402; ICLN: R_3k3_1%_0402_A001
footprint 0402R
pins: 1, 2

## R_3k3_0603_A001
designator R?, comment 3k3
3k3 1% 0603; ICLN: R_3k3_1%_0603_A001
footprint 0603R
pins: 1, 2

## R_3k9_0402_A001
designator R?, comment 3k9
3k9 1% 0402; ICLN: R_3k9_1%_0402_A001
footprint 0402R
pins: 1, 2

## R_4k7_0201_A001
designator R?, comment 4k7
4k7 1% 0201; ICLN: R_4k7_1%_0201_A001
footprint 0201R
pins: 1, 2

## R_4k7_0402_A001
designator R?, comment 4k7
4k7 1% 0402; ICLN: R_4k7_1%_0402_A001
footprint 0402R
pins: 1, 2

## R_4k7_0603_A001
designator R?, comment 4k7
4k7 1% 0603; ICLN: R_4k7_1%_0603_A001
footprint 0603R
pins: 1, 2

## R_4R7_0603_5%_A001
designator R?, comment 4R7
4R7 5% 0603; ICLN: R_4R7_5%_0603_A001
footprint 0603R
pins: 1, 2

## R_4R7_0805_5%_A001
designator R?, comment 4R7
4R7 5% 0805; ICLN: R_4R7_5%_0805_A001
footprint 0805R
pins: 1, 2

## R_5k1_0402_A001
designator R?, comment 5k1
5k1 1% 0402; ICLN: R_5k1_1%_0402_A001
footprint 0402R
pins: 1, 2

## R_5k6_0402_A001
designator R?, comment 5k6
5k6 1% 0402; ITSN: R_5k6_1%_0402_A001
footprint 0402R
pins: 1, 2

## R_6k2_0402_A001
designator R?, comment 6k2
6k2 1% 0402; ICLN: R_6k2_1%_0402_A001
footprint 0402R
pins: 1, 2

## R_8k45_0402_A001
designator R?, comment 8k45
8k45 1% 0402; ICLN: R_8k45_1%_0402_A001
footprint 0402R
pins: 1, 2

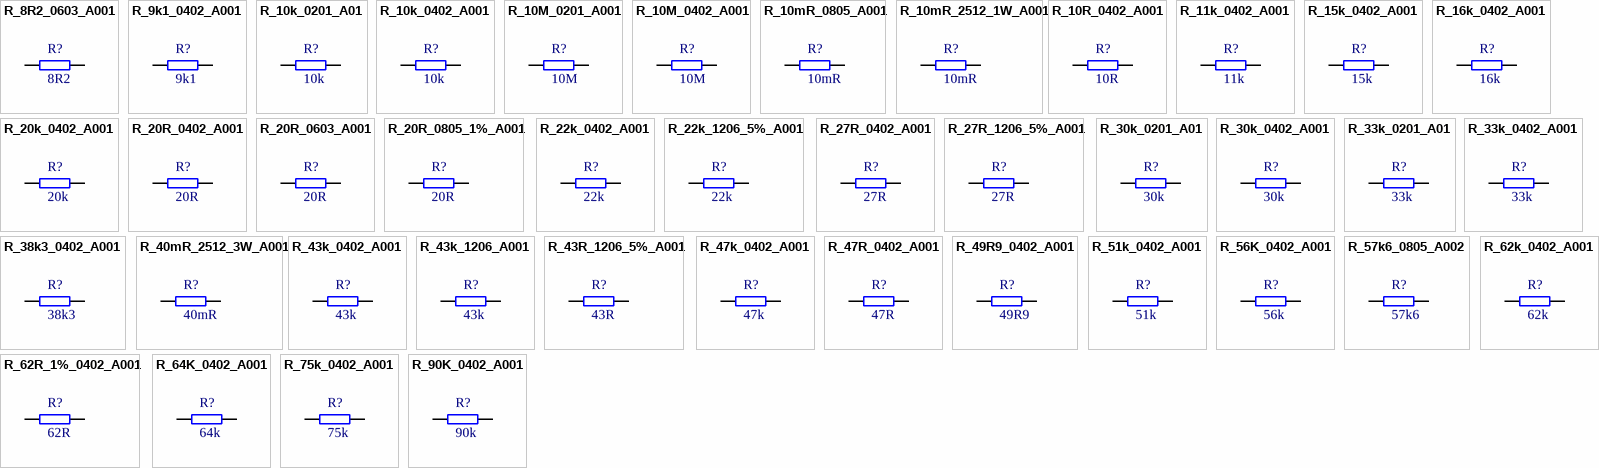
[diagram p5: symbols R_8R2_0603_A001 to R_90K_0402_A001]

## R_8R2_0603_A001
designator R?, comment 8R2
8R2 1% 0603; ICLN: R_8R2_0603_A001
footprint 0603R
pins: 1, 2

## R_9k1_0402_A001
designator R?, comment 9k1
9k1 1% 0402; ICLN: R_9k1_1%_0402_A001
footprint 0402R
pins: 1, 2

## R_10k_0201_A01
designator R?, comment 10k
10k 1% 0201; ICLN: R_10k_1%_0201_A001
footprint 0201R
pins: 1, 2

## R_10k_0402_A001
designator R?, comment 10k
10k 1% 0402; ICLN: R_10k_1%_0402_A001
footprint 0402R
pins: 1, 2

## R_10M_0201_A001
designator R?, comment 10M
10M 1% 0201; ICLN: R_10M_1%_0201_A01
footprint 0201R
pins: 1, 2

## R_10M_0402_A001
designator R?, comment 10M
10M 1% 0402; ICLN: R_10M_1%_0402_A001
footprint 0402R
pins: 1, 2

## R_10mR_0805_A001
designator R?, comment 10mR
10mR 1% 0805; ICLN: R_10mR_1%_0805_A001
footprint 0805R
pins: 1, 2

## R_10mR_2512_1W_A001
designator R?, comment 10mR
10mR 1% 2512 1W; ICLN: R_10mR_1%_2512_1W_A001
footprint 2512R
pins: 1, 2

## R_10R_0402_A001
designator R?, comment 10R
10R 1% 0402; ICLN: R_10R_1%_0402_A001
footprint 0402R
pins: 1, 2

## R_11k_0402_A001
designator R?, comment 11k
11k 1% 0402; ITSN: R_11k_1%_0402_A001
footprint 0402R
pins: 1, 2

## R_15k_0402_A001
designator R?, comment 15k
15k 1% 0402; ICLN: R_15k_1%_0402_A001
footprint 0402R
pins: 1, 2

## R_16k_0402_A001
designator R?, comment 16k
16k 1% 0402; ICLN: R_15k_1%_0402_A001
footprint 0402R
pins: 1, 2

## R_20k_0402_A001
designator R?, comment 20k
20k 1% 0402; ITSN: R_20k_1%_0402_A001
footprint 0402R
pins: 1, 2

## R_20R_0402_A001
designator R?, comment 20R
20R 1% 0402; ICLN: R_20R_1%_0402_A001
footprint 0402R
pins: 1, 2

## R_20R_0603_A001
designator R?, comment 20R
20R 1% 0603; ICLN: R_20R_1%_0603_A001
footprint 0603R
pins: 1, 2

## R_20R_0805_1%_A001
designator R?, comment 20R
20R 1% 0805; ICLN: R_20R_1%_0805_A001
footprint 0805R
pins: 1, 2

## R_22k_0402_A001
designator R?, comment 22k
22k 1% 0402; ICLN: R_22k_1%_0402_A001
footprint 0402R
pins: 1, 2

## R_22k_1206_5%_A001
designator R?, comment 22k
22k 5% 1206; ICLN: R_22k_5%_1206_A001
footprint 1206R
pins: 1, 2

## R_27R_0402_A001
designator R?, comment 27R
27R 1% 0402; ICLN: R_27R_1%_0402_A001
footprint 0402R
pins: 1, 2

## R_27R_1206_5%_A001
designator R?, comment 27R
27R 5% 1206; ICLN: R_27R_5%_1206_A001
footprint 1206R
pins: 1, 2

## R_30k_0201_A01
designator R?, comment 30k
30k 1% 0201; ICLN: R_30k_1%_0201_A001
footprint 0201R
pins: 1, 2

## R_30k_0402_A001
designator R?, comment 30k
30k 1% 0402; ICLN: R_30k_1%_0402_A001
footprint 0402R
pins: 1, 2

## R_33k_0201_A01
designator R?, comment 33k
33k 1% 0201; ICLN: R_33k_1%_0201_A001
footprint 0201R
pins: 1, 2

## R_33k_0402_A001
designator R?, comment 33k
33k 1% 0402; ICLN: R_33k_1%_0402_A001
footprint 0402R
pins: 1, 2

## R_38k3_0402_A001
designator R?, comment 38k3
38k3 1% 0402; ICLN: R_38k3_1%_0402_A001
footprint 0402R
pins: 1, 2

## R_40mR_2512_3W_A001
designator R?, comment 40mR
40mR 1% 2512 3W; ICLN: R_40mR_1%_2512_3W_A001
footprint 2512R
pins: 1, 2

## R_43k_0402_A001
designator R?, comment 43k
43k 1% 0402; ITSN: R_43k_1%_0402_A001
footprint 0402R
pins: 1, 2

## R_43k_1206_A001
designator R?, comment 43k
43k 1% 1206; ICLN: R_43k_1%_1206_A001
footprint 1206R
pins: 1, 2

## R_43R_1206_5%_A001
designator R?, comment 43R
43R 5% 1206; ICLN: R_43R_5%_1206_A001
footprint 1206R
pins: 1, 2

## R_47k_0402_A001
designator R?, comment 47k
47k 1% 0402; ICLN: R_47k_1%_0402_A001
footprint 0402R
pins: 1, 2

## R_47R_0402_A001
designator R?, comment 47R
47R 1% 0402; ITSN: R_47R_1%_0402_A001
footprint 0402R
pins: 1, 2

## R_49R9_0402_A001
designator R?, comment 49R9
49R9 1% 0402; ITSN: R_49R9_1%_0402_A001
footprint 0402R
pins: 1, 2

## R_51k_0402_A001
designator R?, comment 51k
51k 1% 0402; ICLN: R_51k_1%_0402_A001
footprint 0402R
pins: 1, 2

## R_56K_0402_A001
designator R?, comment 56k
56k 1% 0402; ITSN: R_56K_1%_0402_A001
footprint 0402R
pins: 1, 2

## R_57k6_0805_A002
designator R?, comment 57k6
57k6 0.1% 0805; ICLN: R_57k6_0.1%_0805_A001
footprint 0805R
pins: 1, 2

## R_62k_0402_A001
designator R?, comment 62k
62k 1% 0402; ICLN: R_62k_1%_0402_A001
footprint 0402R
pins: 1, 2

## R_62R_1%_0402_A001
designator R?, comment 62R
62R 1% 0402; ITSN: R_62R_1%_0402_A001
footprint 0402R
pins: 1, 2

## R_64K_0402_A001
designator R?, comment 64k
64k 1% 0402; ITSN: R_64k_1%_0402_A001
footprint 0402R
pins: 1, 2

## R_75k_0402_A001
designator R?, comment 75k
75k 1% 0402; ITSN: R_75k_1%_0402_A001
footprint 0402R
pins: 1, 2

## R_90K_0402_A001
designator R?, comment 90k
90k 1% 0402; ICLN: R_90k_1%_0402_A001
footprint 0402R
pins: 1, 2

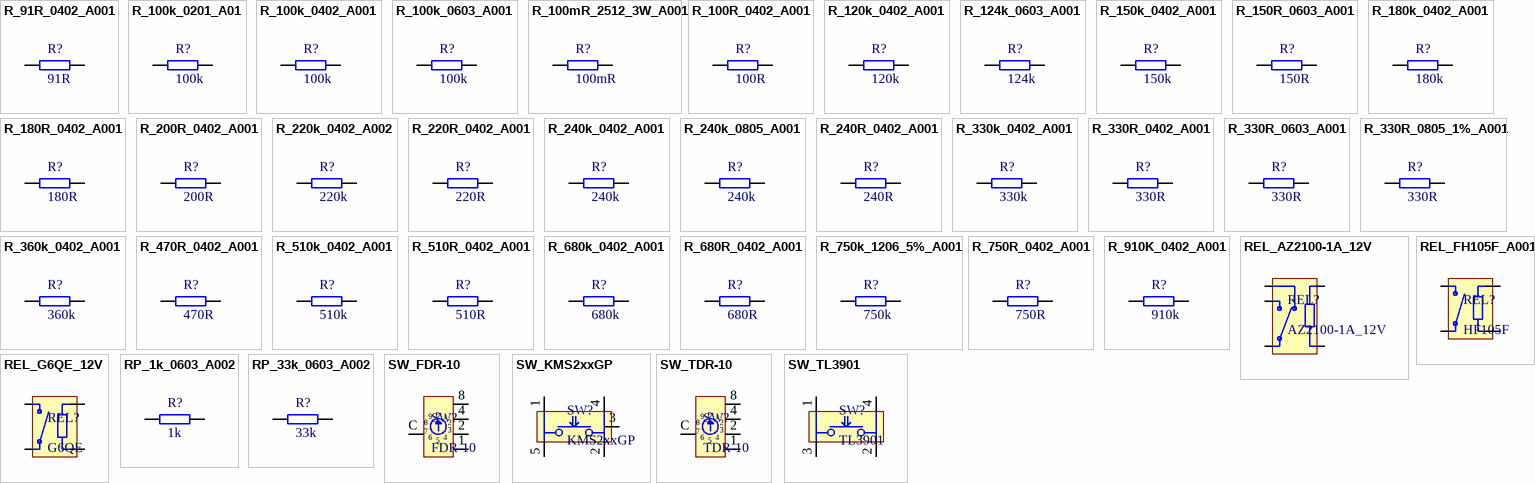
[diagram p6: symbols R_91R_0402_A001 to SW_TL3901]

## R_91R_0402_A001
designator R?, comment 91R
91R 1% 0402; ICLN: R_91R_1%_0402_A001
footprint 0402R
pins: 1, 2

## R_100k_0201_A01
designator R?, comment 100k
100k 1% 0201; ICLN: R_100k_1%_0201_A01
footprint 0201R
pins: 1, 2

## R_100k_0402_A001
designator R?, comment 100k
100k 1% 0402; ICLN: R_100k_1%_0402_A001
footprint 0402R
pins: 1, 2

## R_100k_0603_A001
designator R?, comment 100k
100k 1% 0603; ICLN: R_100k_1%_0603_A001
footprint 0603R
pins: 1, 2

## R_100mR_2512_3W_A001
designator R?, comment 100mR
100mR 1% 2512 3W; ICLN: R_100mR_1%_2512_3W_A001
footprint 2512R
pins: 1, 2

## R_100R_0402_A001
designator R?, comment 100R
100R 1% 0402; ICLN: R_100R_1%_0402_A001
footprint 0402R
pins: 1, 2

## R_120k_0402_A001
designator R?, comment 120k
120k 1% 0402; ITSN: R_120k_1%_0402_A001
footprint 0402R
pins: 1, 2

## R_124k_0603_A001
designator R?, comment 124k
124k 1% 0603; ICLN: R_124k_1%_0603_A001
footprint 0603R
pins: 1, 2

## R_150k_0402_A001
designator R?, comment 150k
150k 1% 0402; ICLN: R_150k_1%_0402_A001
footprint 0402R
pins: 1, 2

## R_150R_0603_A001
designator R?, comment 150R
150R 1% 0603; ICLN: R_150R_1%_0603_A001
footprint 0603R
pins: 1, 2

## R_180k_0402_A001
designator R?, comment 180k
180k 1% 0402; ICLN: R_180k_1%_0402_A001
footprint 0402R
pins: 1, 2

## R_180R_0402_A001
designator R?, comment 180R
180R 1% 0402; ITSN: R_180R_1%_0402_A001
footprint 0402R
pins: 1, 2

## R_200R_0402_A001
designator R?, comment 200R
200R 1% 0402; ICLN: R_200R_1%_0402_A001
footprint 0402R
pins: 1, 2

## R_220k_0402_A002
designator R?, comment 220k
220k 1% 0402; ITSN: R_220k_1%_0402_A001
footprint 0402R
pins: 1, 2

## R_220R_0402_A001
designator R?, comment 220R
220R 1% 0402; ICLN: R_220R_1%_0402_A001
footprint 0402R
pins: 1, 2

## R_240k_0402_A001
designator R?, comment 240k
240k 1% 0402; ITSN: R_240k_1%_0402_A001
footprint 0402R
pins: 1, 2

## R_240k_0805_A001
designator R?, comment 240k
240k 1% 0805; ICLN: R_240k_1%_0805_A001
footprint 0805R
pins: 1, 2

## R_240R_0402_A001
designator R?, comment 240R
240R 1% 0402; ICLN: R_240R_1%_0402_A001
footprint 0402R
pins: 1, 2

## R_330k_0402_A001
designator R?, comment 330k
330k 1% 0402; ICLN: R_330k_1%_0402_A001
footprint 0402R
pins: 1, 2

## R_330R_0402_A001
designator R?, comment 330R
330R 1% 0402; ICLN: R_330R_1%_0402_A001
footprint 0402R
pins: 1, 2

## R_330R_0603_A001
designator R?, comment 330R
330R 1% 0603; ICLN: R_330R_1%_0603_A001
footprint 0603R
pins: 1, 2

## R_330R_0805_1%_A001
designator R?, comment 330R
330R 1% 0805; ICLN: R_330R_1%_0805_A001
footprint 0805R
pins: 1, 2

## R_360k_0402_A001
designator R?, comment 360k
360k 1% 0402; ICLN: R_360k_1%_0402_A001
footprint 0402R
pins: 1, 2

## R_470R_0402_A001
designator R?, comment 470R
470R 1% 0402; ICLN: R_470R_1%_0402_A001
footprint 0402R
pins: 1, 2

## R_510k_0402_A001
designator R?, comment 510k
510k 1% 0402; ICLN: R_510k_1%_0402_A001
footprint 0402R
pins: 1, 2

## R_510R_0402_A001
designator R?, comment 510R
510R 1% 0402; ICLN: R_510R_1%_0402_A001
footprint 0402R
pins: 1, 2

## R_680k_0402_A001
designator R?, comment 680k
680k 1% 0402; ICLN: R_680k_1%_0402_A001
footprint 0402R
pins: 1, 2

## R_680R_0402_A001
designator R?, comment 680R
680R 1% 0402; ICLN: R_680R_1%_0402_A001
footprint 0402R
pins: 1, 2

## R_750k_1206_5%_A001
designator R?, comment 750k
750k 5% 1206; ICLN: R_750k_5%_1206_A001
footprint 1206R
pins: 1, 2

## R_750R_0402_A001
designator R?, comment 750R
750R 1% 0402; ICLN: R_750R_1%_0402_A001
footprint 0402R
pins: 1, 2

## R_910K_0402_A001
designator R?, comment 910k
910k 1% 0402; ICLN: R_910k_1%_0402_A001
footprint 0402R
pins: 1, 2

## REL_AZ2100-1A_12V
designator REL?, comment AZ2100-1A_12V
Relay 32A/250V i NO; ICLN: REL_AZ2100-1A_12V_A001
footprint AZ2100_A001 (1pole relay 32A)
pins: 1, 2, 3, 4, 5

## REL_FH105F_A001
designator REL?, comment HF105F
Relay 20A i NO; ICLN: REL_HF105F_D790441_A001
footprint HF105F_A001 (1pole relay 20A)
pins: 1, 2, 3, 4

## REL_G6QE_12V
designator REL?, comment G6QE
Relay 32A/250V i NO; ICLN: REL_G6QE_12V_A001
footprint G6QE_A001 (1pole relay 32A)
pins: 1, 2, 3, 4

## RP_1k_0603_A002
designator R?, comment 1k
1k 0.1% 0603; ICLN: R_1k_0.1%_0603_A001
footprint 0603R
pins: 1, 2

## RP_33k_0603_A002
designator R?, comment 33k
22k 0.1% 0603; ICLN: R_33k_0.1%_0603_A001
footprint 0603R
pins: 1, 2

## SW_FDR-10
designator SW?, comment FDR-10
rotary dip switch 10 pole; ITSN: SW_FDR_10_THT_A001
footprint FDR-10 (rotary dip switch)
pins: 1, 2, 4, 8, C
text: 0; 9; 3; 7; 6; 5

## SW_KMS2xxGP
designator SW?, comment KMS2xxGP
SMD switch angle KMS2xxGP; ICLN: SW_KMS2xxGP_TACT_SIDE_SMD_A01
footprint SW_KMS2xxGP (smd side SW)
pins: 1, 2, 3, 4, 5

## SW_TDR-10
designator SW?, comment TDR-10
rotary dip switch 10 pole; ITSN: SW_TDR_10_THT_A001
footprint TDR-10 (rotary dip switch)
pins: 1, 2, 4, 8, C
text: 0; 9; 3; 7; 6; 5

## SW_TL3901
designator SW?, comment TL3901
SMD switch angle TL3901; ICLN: SW_TL3901_TACT_SIDE_SMD_A001
footprint SW_tl3901 (switch angle SMD)
pins: 1, 2, 3, 4

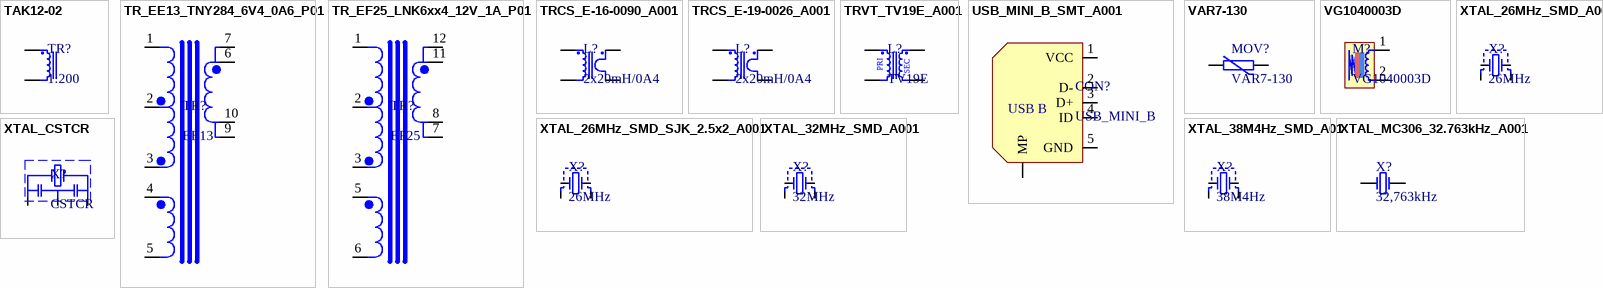
[diagram p7: symbols TAK12-02 to XTAL_MC306_32.763kHz_A001]

## TAK12-02
designator TR?, comment 1:200
CT; ICLN: TRCS_TAK12-02_A001
footprint TAK12-xx
pins: 1, 3

## TR_EE13_TNY284_6V4_0A6_P01
designator TR?, comment EE13
EE13 <-> E13/6/6; ICLN: TR_EE13_TNY284_6V4_0A6_P001
footprint TR_EE13_PION_12.3x12.3_10.6
pins: 1, 2, 3, 4 5, 5, 6, 7, 9, 10

## TR_EF25_LNK6xx4_12V_1A_P01
designator TR?, comment EF25
ICLN: TR_EF25_LNK6xx4_12V_1A_P001
footprint TR_EF25_2x12_2504_A01
pins: 1, 2, 3, 5, 6, 7, 8, 11, 12

## TRCS_E-16-0090_A001
designator L?, comment 2x20mH/0A4
ICLN: TRCS_E-16-0090_A001
footprint TRCS_E-16-0090_A1 (current transformer)
pins: 1, 2, 3, 4

## TRCS_E-19-0026_A001
designator L?, comment 2x20mH/0A4
ICLN: TRCS_E-19-0026_A001
footprint TRCS_E-19-0026_A1 (current transformer)
pins: 1, 2, 3, 4

## TRVT_TV19E_A001
designator L?, comment TV19E
voltage transducer; ICLN: TRVT_TV19E__A001
footprint TRVS_TV19E_A01 (currend type  voltage transformer)
pins: 1, 5, 7, 9
text: PRI; SEC

## USB_MINI_B_SMT_A001
designator CON?, comment USB_MINI_B
USB mini B AMPHENOL: 10033526-N3212MLF or MOLEX:67503-1020; ITSN: CON_USB_MINIB_SMD_A001
footprint USB_MINI_B_SMT_1
pins: 1 VCC, 2 D-, 3 D+, 4 ID, 5 GND, MP1 MP
text: USB B

## VAR7-130
designator MOV?
MOV 130V 1,2kA, 240pF; ITSN: MOV_130V_1k2A_THT_A001
footprint WE-VD_Varistor_5mm (WE-VD Disk Varistor 5mm)
pins: 1, 2

## VG1040003D
designator M?
LINEAR VIBRATOR LRA; ICLN: LRA_VG1040003D_A001
footprint VG1040003D (vibration motor)
pins: 1, 2

## XTAL_26MHz_SMD_A001
designator X?, comment 26MHz
26MHz 10ppm SMD x 2.5 mm 9p; ICLN: X_26MHz_10ppm_9p_SMD3225_A001
footprint X_3225_A01 (xtal 3225)
pins: 1, 2, 3, 4

## XTAL_26MHz_SMD_SJK_2.5x2_A001
designator X?, comment 26MHz
ITSN: XTAL_26MHz_SMD_SJK_2.5x2_A001
footprint SJK_2_5x2_A001 (XTAL)
pins: 1, 2, 3, 4

## XTAL_32MHz_SMD_A001
designator X?, comment 32MHz
32MHz 10ppm SMD 1.6 x 2.0 mm 10p; ICLN: XTAL_NX2016SA-32M_A001
footprint X_1620_045_A1 (NX2016)
pins: 1, 2, 3, 4

## XTAL_38M4Hz_SMD_A01
designator X?, comment 38M4Hz
38M4Hz 10ppm SMD 1.6 x 1.2 mm 10p; ICLN: XTAL_ECS384-38M4_A001
footprint X_1612_035_A1 (ECS 1.6x1.2mm)
pins: 1, 2, 3, 4

## XTAL_CSTCR
designator X?, comment CSTCR
ceramic resonator e=1.5mm; ICLN: XTAL_CSTCR4M00G53Z-R0_A001
footprint CSTCR_X_A001
pins: 1, 2, 3

## XTAL_MC306_32.763kHz_A001
designator X?, comment 32,763kHz
EPSON MC306 32.768000KHZ 12.5PF; ITSN: XTAL_MC306_32.763kHz_A001
footprint MC-306
pins: 1, 2